# Altium footprint library RFM232_V04.PcbLib: 25 footprints (part 1 of 2)
Each footprint in its own frame and in the unit in brackets; x right, y up, seen from the top. Pads: shape width x height; smd on the part's side, far side on the other; paste and mask are expansions set on the pad; w line width, h text height; cw(c..) or ccw(c..) is an arc to the next point about the centre after c.
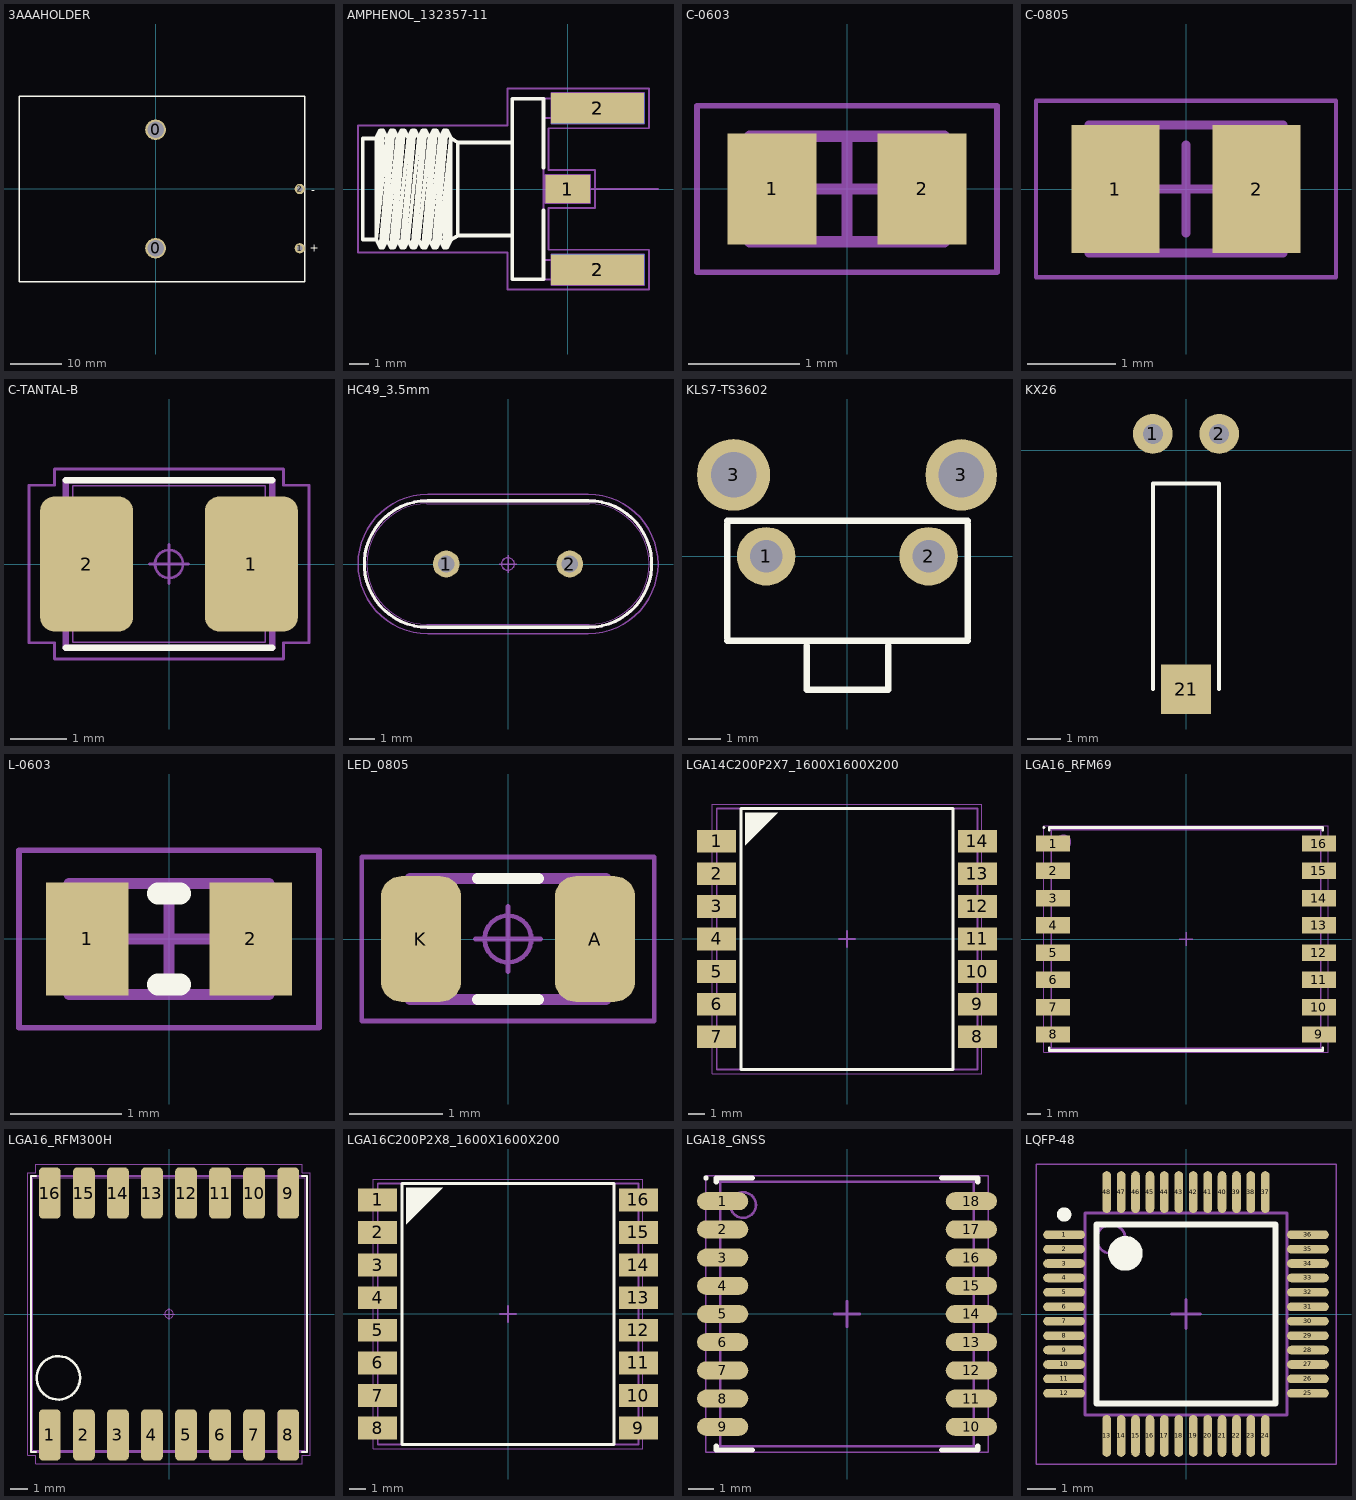
[diagram p0: the footprints below, top view; thin cyan lines are the x and y axes]

## 3AAAHOLDER [mm]
height 2.38
pads (4):
  round 4 hole 3.2: 0(0,-11.5) 0(0,11.5)
  round 2 hole 1: 1(28,-11.5) 2(28,0)
Top Overlay:
  lines w0.254: -26.5,-18 29,-18 29,18 -26.5,18 -26.5,-18
  text "+" at 29.9,-12.2 h1.52
  text "-" at 30.2,-0.9 h1.52
3D body "3x AAA battery holder_update.stp": height 13, standoff 0, extent -26.188,-18 26.795,18

## AMPHENOL_132357-11 [mm] "SMA End Launch Jack for 1.58mm PCB, 50 Ohm, Flat Tab Contact"
height 7.92
pads (5):
  rect 2.35x1.5 smd: 1(0,0)
  rect 4.9x1.6 smd: 2(1.575,-4.25) 2(1.575,4.25)
  rect 4.9x1.6 smd far side: 2(1.575,-4.25) 2(1.575,4.25)
Top Overlay:
  lines w0.2: -10.09,2.665 -10.805,2.665 -10.805,-2.665 -10.09,-2.665 ; -6.17,-2.665 -5.795,-2.453 ; -2.925,-2.453 -5.795,-2.453 ; -2.925,2.447 -5.795,2.447 ; -1.275,-1.137 -1.275,-4.76 -2.925,-4.76 -2.925,4.76 -1.275,4.76 -1.275,1.137 ; -10.09,-2.665 -10.09,2.715 -9.879,3.094 ; -10.09,-2.665 -9.879,-3.094 ; -10.09,-2.665 -9.53,2.715 ; -10.09,-2.665 -9.741,3.094 ; -10.09,-2.665 -9.879,3.094 ; -9.879,-3.094 -9.741,-3.094 ; -9.879,-3.094 -9.319,3.094 ; -9.879,3.094 -9.741,3.094 ; -9.741,-3.094 -9.53,-2.715 ; -9.741,-3.094 -9.181,3.094 ; -9.741,3.094 -9.53,2.715 ; -9.53,-2.715 -9.319,-3.094 ; -9.53,-2.715 -8.97,2.715 ; -9.53,2.715 -9.319,3.094 ; -9.319,-3.094 -9.181,-3.094 ; -9.319,-3.094 -8.759,3.094 ; -9.319,3.094 -9.181,3.094 ; -9.181,-3.094 -8.97,-2.715 ; -9.181,-3.094 -8.621,3.094 ; -9.181,3.094 -8.97,2.715 ; -8.97,-2.715 -8.759,-3.094 ; -8.97,-2.715 -8.41,2.715 ; -8.97,2.715 -8.759,3.094 ; -8.759,-3.094 -8.621,-3.094 ; -8.759,-3.094 -8.199,3.094 ; -8.759,3.094 -8.621,3.094 ; -8.621,-3.094 -8.41,-2.715 ; -8.621,-3.094 -8.061,3.094 ; -8.621,3.094 -8.41,2.715 ; -8.41,-2.715 -8.199,-3.094 ; -8.41,-2.715 -7.85,2.715 ; -8.41,2.715 -8.199,3.094 ; -8.199,-3.094 -8.061,-3.094 ; -8.199,-3.094 -7.639,3.094 ; -8.199,3.094 -8.061,3.094 ; -8.061,-3.094 -7.85,-2.715 ; -8.061,-3.094 -7.501,3.094 ; -8.061,3.094 -7.85,2.715 ; -7.85,-2.715 -7.639,-3.094 ; -7.85,-2.715 -7.29,2.715 ; -7.85,2.715 -7.639,3.094 ; -7.639,-3.094 -7.501,-3.094 ; -7.639,-3.094 -7.079,3.094 ; -7.639,3.094 -7.501,3.094 ; -7.501,-3.094 -7.29,-2.715 ; -7.501,-3.094 -6.941,3.094 ; -7.501,3.094 -7.29,2.715 ; -7.29,-2.715 -7.079,-3.094 ; -7.29,-2.715 -6.73,2.715 ; -7.29,2.715 -7.079,3.094 ; -7.079,-3.094 -6.941,-3.094 ; -7.079,-3.094 -6.519,3.094 ; -7.079,3.094 -6.941,3.094 ; -6.941,-3.094 -6.73,-2.715 ; -6.941,-3.094 -6.381,3.094 ; -6.941,3.094 -6.73,2.715 ; -6.73,-2.715 -6.519,-3.094 ; -6.73,-2.715 -6.17,2.713 ; -6.73,2.715 -6.519,3.094 ; -6.519,-3.094 -6.381,-3.094 ; -6.519,-3.094 -6.17,2.713 ; -6.519,3.094 -6.381,3.094 ; -6.381,-3.094 -6.17,-2.715 -6.17,2.713 ; -6.381,-3.094 -6.17,2.665 -5.795,2.447 ; -6.381,3.094 -6.17,2.713 ; -5.795,-2.453 -5.795,2.447
Mechanical 8:
  lines w0.1: -0.5,0 0,0 ; 0,-0.5 0,0 ; 0,0.5 0,0 ; 0.5,0 0,0 ; 1.075,-4.25 1.575,-4.25 ; 1.075,4.25 1.575,4.25 ; 1.575,-4.75 1.575,-4.25 ; 1.575,-3.75 1.575,-4.25 ; 1.575,3.75 1.575,4.25 ; 1.575,4.75 1.575,4.25 ; 2.075,-4.25 1.575,-4.25 ; 2.075,4.25 1.575,4.25 ; -1.175,-0.75 -1.175,0.75 1.175,0.75 1.175,-0.75 -1.175,-0.75 ; -0.875,-5.05 4.025,-5.05 4.025,-3.45 -0.875,-3.45 -0.875,-5.05 ; -0.875,3.45 4.025,3.45 4.025,5.05 -0.875,5.05 -0.875,3.45
Mechanical 14:
  lines w0.1: -10.09,2.665 -10.805,2.665 -10.805,-2.665 -10.09,-2.665 ; -6.17,-2.665 -5.795,-2.453 ; -2.925,-2.453 -5.795,-2.453 ; -2.925,2.447 -5.795,2.447 ; -1.275,-4.76 -1.275,0 ; -1.275,-3.74 3.475,-3.74 3.475,-4.76 -2.925,-4.76 -2.925,4.76 3.475,4.76 3.475,3.74 -1.275,3.74 ; -1.275,-0.251 0.635,-0.251 0.635,0.251 -1.275,0.251 ; -1.275,4.76 -1.275,0 ; 4.75,0 -1.275,0 ; -10.09,-2.665 -10.09,2.715 -9.879,3.094 ; -10.09,-2.665 -9.879,-3.094 ; -10.09,-2.665 -9.53,2.715 ; -10.09,-2.665 -9.741,3.094 ; -10.09,-2.665 -9.879,3.094 ; -9.879,-3.094 -9.741,-3.094 ; -9.879,-3.094 -9.319,3.094 ; -9.879,3.094 -9.741,3.094 ; -9.741,-3.094 -9.53,-2.715 ; -9.741,-3.094 -9.181,3.094 ; -9.741,3.094 -9.53,2.715 ; -9.53,-2.715 -9.319,-3.094 ; -9.53,-2.715 -8.97,2.715 ; -9.53,2.715 -9.319,3.094 ; -9.319,-3.094 -9.181,-3.094 ; -9.319,-3.094 -8.759,3.094 ; -9.319,3.094 -9.181,3.094 ; -9.181,-3.094 -8.97,-2.715 ; -9.181,-3.094 -8.621,3.094 ; -9.181,3.094 -8.97,2.715 ; -8.97,-2.715 -8.759,-3.094 ; -8.97,-2.715 -8.41,2.715 ; -8.97,2.715 -8.759,3.094 ; -8.759,-3.094 -8.621,-3.094 ; -8.759,-3.094 -8.199,3.094 ; -8.759,3.094 -8.621,3.094 ; -8.621,-3.094 -8.41,-2.715 ; -8.621,-3.094 -8.061,3.094 ; -8.621,3.094 -8.41,2.715 ; -8.41,-2.715 -8.199,-3.094 ; -8.41,-2.715 -7.85,2.715 ; -8.41,2.715 -8.199,3.094 ; -8.199,-3.094 -8.061,-3.094 ; -8.199,-3.094 -7.639,3.094 ; -8.199,3.094 -8.061,3.094 ; -8.061,-3.094 -7.85,-2.715 ; -8.061,-3.094 -7.501,3.094 ; -8.061,3.094 -7.85,2.715 ; -7.85,-2.715 -7.639,-3.094 ; -7.85,-2.715 -7.29,2.715 ; -7.85,2.715 -7.639,3.094 ; -7.639,-3.094 -7.501,-3.094 ; -7.639,-3.094 -7.079,3.094 ; -7.639,3.094 -7.501,3.094 ; -7.501,-3.094 -7.29,-2.715 ; -7.501,-3.094 -6.941,3.094 ; -7.501,3.094 -7.29,2.715 ; -7.29,-2.715 -7.079,-3.094 ; -7.29,-2.715 -6.73,2.715 ; -7.29,2.715 -7.079,3.094 ; -7.079,-3.094 -6.941,-3.094 ; -7.079,-3.094 -6.519,3.094 ; -7.079,3.094 -6.941,3.094 ; -6.941,-3.094 -6.73,-2.715 ; -6.941,-3.094 -6.381,3.094 ; -6.941,3.094 -6.73,2.715 ; -6.73,-2.715 -6.519,-3.094 ; -6.73,-2.715 -6.17,2.713 ; -6.73,2.715 -6.519,3.094 ; -6.519,-3.094 -6.381,-3.094 ; -6.519,-3.094 -6.17,2.713 ; -6.519,3.094 -6.381,3.094 ; -6.381,-3.094 -6.17,-2.715 -6.17,2.713 ; -6.381,-3.094 -6.17,2.665 -5.795,2.447 ; -6.381,3.094 -6.17,2.713 ; -5.795,-2.453 -5.795,2.447
Mechanical 15:
  lines w0.1: -11.055,-3.344 -3.175,-3.344 -3.175,-5.3 4.275,-5.3 4.275,-3.2 -1.025,-3.2 -1.025,-1 1.425,-1 1.425,1 -1.025,1 -1.025,3.2 4.275,3.2 4.275,5.3 -3.175,5.3 -3.175,3.344 -11.055,3.344 -11.055,-3.344
3D body "AMPHENOL_132357-11.stp": height 4.08, standoff -3.84, extent -10.805,-4.76 3.475,4.76

## C-0603 [mm] "Chip Capacitor, 2-Leads, Body 1,60x0,80mm, IPC Medium Density"
height 0.85
pads (2):
  rect 0.8x1 smd: 1(-0.675,0) 2(0.675,0)
Mechanical 13:
  lines w0.1: -0.875,-0.475 -0.875,0.475 0.875,0.475 0.875,-0.475 -0.875,-0.475
Mechanical 15:
  lines w0.05: -1.35,-0.75 -1.35,0.75 1.35,0.75 1.35,-0.75 -1.35,-0.75
  lines w0.1: -0.475,0 0.475,0 ; 0,-0.475 0,0.475
3D body: height 0.85, standoff 0, extent -0.525,-0.475 0.525,0.475
3D body: height 0.85, standoff 0, extent -0.875,-0.475 -0.525,0.475
3D body: height 0.85, standoff 0, extent 0.525,-0.475 0.875,0.475

## C-0805 [mm] "Chip Capacitor, 2-Leads, Body 2,00x1,25mm, IPC Medium Density"
height 1.1
pads (2):
  rect 1x1.45 smd: 1(-0.8,0) 2(0.8,0)
Mechanical 13:
  lines w0.1: -1.1,-0.725 1.1,-0.725 1.1,0.725 -1.1,0.725 -1.1,-0.725
Mechanical 15:
  lines w0.05: -1.7,-1 1.7,-1 1.7,1 -1.7,1 -1.7,-1
  lines w0.1: -0.5,0 0.5,0 ; 0,-0.5 0,0.5
3D body: height 1.1, standoff 0, extent 0.6,-0.725 1.1,0.725
3D body: height 1.1, standoff 0, extent -1.1,-0.725 -0.6,0.725
3D body: height 1.1, standoff 0, extent -0.6,-0.725 0.6,0.725

## C-TANTAL-B [mm] "Capacitor, Polarized, Molded Body; 3.45 mm L X 2.80 mm W X 2.10 mm H body"
height 2.1
pads (2):
  rrect30% 1.66x2.42 smd: 1(1.475,0) 2(-1.475,0)
Top Overlay:
  lines w0.12: -1.85,-1.5 1.85,-1.5 ; -1.85,1.5 1.85,1.5
Mechanical 11:
  lines w0.12: -1.85,-1.5 1.85,-1.5 1.85,1.5 -1.85,1.5 -1.85,-1.5
Mechanical 12:
  lines w0.025: -1.75,-1.1 -1.75,1.1 -0.9,1.1 -0.9,-1.1 -1.75,-1.1 ; -1.725,-1.4 1.725,-1.4 1.725,1.4 -1.725,1.4 -1.725,-1.4 ; 0.9,-1.1 1.75,-1.1 1.75,1.1 0.9,1.1 0.9,-1.1
Mechanical 15:
  circle w0.05: c0,0 r0.25
  lines w0.05: -0.35,0 0.35,0 ; 0,-0.35 0,0.35 ; -2.505,-1.41 -2.05,-1.41 -2.05,-1.7 2.05,-1.7 2.05,-1.41 2.505,-1.41 2.505,1.41 2.05,1.41 2.05,1.7 -2.05,1.7 -2.05,1.41 -2.505,1.41 -2.505,-1.41
3D body "CAPPM350X280X210L85X220.STEP": height 2.1, standoff 0, extent -1.75,-1.4 1.75,1.4

## HC49_3.5mm [mm] "Crystal, HC-49; 4.88 mm C X 0.43 mm W 11.175 mm L X 4.75 mm T X 3.50 mm H body"
height 3.5
pads (2):
  round 1.06 hole 0.66 paste-1.06: 1(-2.44,0) 2(2.44,0)
Top Overlay:
  lines w0.12: -3.18,-2.5 cw(c-3.18,0) -3.18,2.5 3.18,2.5 cw(c3.18,0) 3.18,-2.5 -3.18,-2.5
Mechanical 11:
  lines w0.12: -3.18,-2.5 cw(c-3.18,0) -3.18,2.5 3.18,2.5 cw(c3.18,0) 3.18,-2.5 -3.18,-2.5
Mechanical 12:
  circle w0.025: c-2.44,0 r0.23
  circle w0.025: c2.44,0 r0.23
  lines w0.025: -3.213,-2.375 cw(c-3.213,0) -3.213,2.375 3.213,2.375 cw(c3.213,0) 3.213,-2.375 -3.213,-2.375
Mechanical 15:
  circle w0.05: c0,0 r0.25
  lines w0.05: -0.35,0 0.35,0 ; 0,-0.35 0,0.35 ; -3.18,-2.75 cw(c-3.18,0) -3.18,2.75 3.18,2.75 cw(c3.18,0) 3.18,-2.75 -3.18,-2.75
Mechanical 16:
  text ".Designator" at 0,0 h1.2
3D body "XTAL_HC49P488W43L1117T475H350.STEP": height 3.5, standoff -2, extent -5.588,-2.375 5.587,2.375

## KLS7-TS3602 [mm] "miniature switch"
height 2.38
pads (4):
  round 1.8 hole 1: 1(-2.5,0) 2(2.5,0)
  oval 2.25x2.2 hole 1.4: 3(-3.5,2.5)
  round 2.2 hole 1.4: 3(3.5,2.5)
Top Overlay:
  lines w0.2: -3.7,-2.6 3.7,-2.6 ; -3.7,-2.5 -3.7,1 ; -3.7,1.1 3.7,1.1 ; -1.25,-2.75 -1.25,-4.1 1.25,-4.1 1.25,-2.75 ; 3.7,-2.5 3.7,1
3D body "KLS7-TS3602.STEP": height 4.4, standoff -1.4, extent -3.7,-3.975 3.6,3.75

## KX26 [mm] "clock crystal, 2*6 mm"
height 2.38
pads (3):
  round 1.2 hole 0.6: 1(-1,0.5) 2(1,0.5)
  rect 1.5x1.5 smd: 21(0,-7.2)
Top Overlay:
  lines w0.12: -1,-7.2 -1,-1 1,-1 1,-7.2
3D body: height 0.99, standoff -1, extent -1,-7.2 0.996,-1

## L-0603 [mm] "Chip Inductor, 2-Leads, Body 1,60x0,80mm, IPC Medium Density"
height 1
pads (2):
  rect 0.74x1.02 smd: 1(-0.735,0) 2(0.735,0)
Top Overlay:
  lines w0.2: -0.1,-0.41 0.1,-0.41 ; -0.1,0.41 0.1,0.41
Mechanical 13:
  lines w0.1: -0.9,-0.5 -0.9,0.5 0.9,0.5 0.9,-0.5 -0.9,-0.5
Mechanical 15:
  lines w0.05: -1.35,-0.8 -1.35,0.8 1.35,0.8 1.35,-0.8 -1.35,-0.8
  lines w0.1: -0.5,0 0.5,0 ; 0,-0.5 0,0.5
3D body "INDC1608X10N.step": height 1, standoff 0, extent -0.9,-0.5 0.9,0.5

## LED_0805 [mm] "LED, Chip; 2.00 mm L X 1.25 mm W X 0.80 mm H body"
height 0.8
pads (2):
  rrect51% 0.86x1.35 smd: A(0.935,0) K(-0.935,0)
Top Overlay:
  lines w0.12: -0.325,-0.65 0.325,-0.65 ; -0.325,0.65 0.325,0.65
Mechanical 11:
  lines w0.12: -1.05,-0.65 1.05,-0.65 1.05,0.65 -1.05,0.65 -1.05,-0.65
Mechanical 12:
  lines w0.025: -1,-0.625 1,-0.625 ; -1,-0.625 -1,0.625 ; -1,-0.625 -1,0.625 ; -1,-0.625 -0.6,-0.625 -0.6,0.625 -1,0.625 ; -1,0.625 1,0.625 ; 1,-0.625 1,0.625 ; 1,-0.625 0.6,-0.625 0.6,0.625 1,0.625 ; 1,-0.625 1,0.625
Mechanical 15:
  circle w0.05: c0,0 r0.25
  lines w0.05: -0.35,0 0.35,0 ; 0,-0.35 0,0.35 ; -1.57,-0.88 1.57,-0.88 1.57,0.88 -1.57,0.88 -1.57,-0.88
3D body: height 0.25, standoff 0, extent -1,-0.625 1,0.625

## LGA14C200P2X7_1600X1600X200 [mm] "LGA, 14-Leads, Body 16,00x16,00mmx2,00mm, Pitch 2,00mm"
height 2
pads (14):
  rect 2.4x1.4 smd: 1(-8,6) 2(-8,4) 3(-8,2) 4(-8,0) 5(-8,-2) 6(-8,-4) 7(-8,-6) 8(8,-6) 9(8,-4) 10(8,-2) 11(8,0) 12(8,2) 13(8,4) 14(8,6)
Top Overlay:
  region: -4.25,7.75 -6.25,5.75 -6.25,7.75
  lines w0.2: -6.5,-8 -6.5,8 6.5,8 6.5,-8 -6.5,-8
Mechanical 13:
  lines w0.1: -8,-8 -8,8 8,8 8,-8 -8,-8
Mechanical 15:
  lines w0.05: -8.25,-8.25 -8.25,8.25 8.25,8.25 8.25,-8.25 -8.25,-8.25
  lines w0.1: -0.5,0 0.5,0 ; 0,-0.5 0,0.5
3D body: height 2, standoff 0.1, extent -8,-8 8,8

## LGA16_RFM69 [mm] "LGA, 16-Leads, RFM69HW"
height 2
pads (16):
  rect 2.5x1.2 smd: 1(-9.75,7) 2(-9.75,5) 3(-9.75,3) 4(-9.75,1) 5(-9.75,-1) 6(-9.75,-3) 7(-9.75,-5) 8(-9.75,-7) 9(9.75,-7) 10(9.75,-5) 11(9.75,-3) 12(9.75,-1) 13(9.75,1) 14(9.75,3) 15(9.75,5) 16(9.75,7)
Top Overlay:
  circle w0.1: c-10.425,8.175 r0.05
  lines w0.2: -10.025,-8 -10.025,-8.175 10.025,-8.175 10.025,-8 ; -10.025,8 -10.025,8.175 10.025,8.175 10.025,8
Mechanical 13:
  circle w0.1: c-8.975,7.125 r0.5
  lines w0.1: -9.875,-8.025 9.875,-8.025 9.875,8.025 -9.875,8.025 -9.875,-8.025
Mechanical 15:
  lines w0.05: -10.435,-8.3 10.435,-8.3 10.435,8.3 -10.435,8.3 -10.435,-8.3
  lines w0.1: -0.5,0 0.5,0 ; 0,-0.5 0,0.5
3D body "LGA16_RFM69.step": height 2, standoff 0.1, extent -9.875,-8.025 9.875,8.025

## LGA16_RFM300H [mm] "Chip Array, 2 Side Concave, 2.00 mm pitch; 16 pin, 16.00 mm L X 16.00 mm W X 2.00 mm H body"
height 2
pads (16):
  rrect39% 1.28x3.01 smd: 1(-7,-7.105) 2(-5,-7.105) 3(-3,-7.105) 4(-1,-7.105) 5(1,-7.105) 6(3,-7.105) 7(5,-7.105) 8(7,-7.105) 9(7,7.105) 10(5,7.105) 11(3,7.105) 12(1,7.105) 13(-1,7.105) 14(-3,7.105) 15(-5,7.105) 16(-7,7.105)
Top Overlay:
  circle w0.15: c-6.5,-3.75 r1.275
  lines w0.12: -7.82,-8.1 -8.1,-8.1 -8.1,8.1 -7.82,8.1 ; 7.82,-8.1 8.1,-8.1 8.1,8.1 7.82,8.1
Mechanical 11:
  lines w0.12: -8.1,-8.1 -8.1,8.1 8.1,8.1 8.1,-8.1 -8.1,-8.1
Mechanical 12:
  lines w0.025: -8,-8 -8,8 8,8 8,-8 -8,-8 ; -7.575,-8 -6.425,-8 -6.425,-5.8 -7.575,-5.8 -7.575,-8 ; -7.575,5.8 -6.425,5.8 -6.425,8 -7.575,8 -7.575,5.8 ; -5.575,-8 -4.425,-8 -4.425,-5.8 -5.575,-5.8 -5.575,-8 ; -5.575,5.8 -4.425,5.8 -4.425,8 -5.575,8 -5.575,5.8 ; -3.575,-8 -2.425,-8 -2.425,-5.8 -3.575,-5.8 -3.575,-8 ; -3.575,5.8 -2.425,5.8 -2.425,8 -3.575,8 -3.575,5.8 ; -1.575,-8 -0.425,-8 -0.425,-5.8 -1.575,-5.8 -1.575,-8 ; -1.575,5.8 -0.425,5.8 -0.425,8 -1.575,8 -1.575,5.8 ; 0.425,-8 1.575,-8 1.575,-5.8 0.425,-5.8 0.425,-8 ; 0.425,5.8 1.575,5.8 1.575,8 0.425,8 0.425,5.8 ; 2.425,-8 3.575,-8 3.575,-5.8 2.425,-5.8 2.425,-8 ; 2.425,5.8 3.575,5.8 3.575,8 2.425,8 2.425,5.8 ; 4.425,-8 5.575,-8 5.575,-5.8 4.425,-5.8 4.425,-8 ; 4.425,5.8 5.575,5.8 5.575,8 4.425,8 4.425,5.8 ; 6.425,-8 7.575,-8 7.575,-5.8 6.425,-5.8 6.425,-8 ; 6.425,5.8 7.575,5.8 7.575,8 6.425,8 6.425,5.8
Mechanical 15:
  circle w0.05: c0,0 r0.25
  lines w0.05: -0.35,0 0.35,0 ; 0,-0.35 0,0.35 ; -8.3,-8.3 -8.3,8.3 -7.84,8.3 -7.84,8.81 7.84,8.81 7.84,8.3 8.3,8.3 8.3,-8.3 7.84,-8.3 7.84,-8.81 -7.84,-8.81 -7.84,-8.3 -8.3,-8.3
Mechanical 16:
  text ".Designator" at 0,0 h1.2
3D body "LGA16_RFM300H.STEP": height 2, standoff 0, extent -8,-8.05 8,8.05

## LGA16C200P2X8_1600X1600X200 [mm] "LGA, 16-Leads, Body 16,00x16,00mmx2,00mm, Pitch 2,00mm"
height 2
pads (16):
  rect 2.4x1.4 smd: 1(-8,7) 2(-8,5) 3(-8,3) 4(-8,1) 5(-8,-1) 6(-8,-3) 7(-8,-5) 8(-8,-7) 9(8,-7) 10(8,-5) 11(8,-3) 12(8,-1) 13(8,1) 14(8,3) 15(8,5) 16(8,7)
Top Overlay:
  region: -4,7.75 -6.25,5.5 -6.25,7.75
  lines w0.2: -6.5,-8 6.5,-8 6.5,8 -6.5,8 -6.5,-8
Mechanical 13:
  lines w0.1: -8,-8 8,-8 8,8 -8,8 -8,-8
Mechanical 15:
  lines w0.05: -8.25,-8.25 8.25,-8.25 8.25,8.25 -8.25,8.25 -8.25,-8.25
  lines w0.1: -0.5,0 0.5,0 ; 0,-0.5 0,0.5
3D body: height 2, standoff 0.1, extent -8,-8 8,8

## LGA18_GNSS [mm] "8-Leads, Body 10,10x9,70mm, Pitch 1,10mm"
height 2.6
pads (18):
  oval 2x0.7 smd mask+0.1: 1(-4.85,4.4) 2(-4.85,3.3) 3(-4.85,2.2) 4(-4.85,1.1) 5(-4.85,0) 6(-4.85,-1.1) 7(-4.85,-2.2) 8(-4.85,-3.3) 9(-4.85,-4.4) 10(4.85,-4.4) 11(4.85,-3.3) 12(4.85,-2.2) 13(4.85,-1.1) 14(4.85,0) 15(4.85,1.1) 16(4.85,2.2) 17(4.85,3.3) 18(4.85,4.4)
Top Overlay:
  circle w0.1: c-5.5,5.3 r0.05
  lines w0.2: -5.1,-5.15 -5.1,-5.3 -3.695,-5.3 ; -5.1,5.15 -5.1,5.3 -3.695,5.3 ; 3.695,-5.3 5.1,-5.3 5.1,-5.15 ; 3.695,5.3 5.1,5.3 5.1,5.15
Mechanical 13:
  circle w0.1: c-4.05,4.25 r0.5
  lines w0.1: -4.95,-5.15 4.95,-5.15 4.95,5.15 -4.95,5.15 -4.95,-5.15
Mechanical 15:
  lines w0.05: -5.505,-5.4 5.505,-5.4 5.505,5.4 -5.505,5.4 -5.505,-5.4
  lines w0.1: -0.5,0 0.5,0 ; 0,-0.5 0,0.5
3D body: height 2.6, standoff 0, extent -4.95,-5.15 4.95,5.15

## LQFP-48 [mm] "TSQFP, 48-Leads, Body 7,00x7,00mm, Pitch 0,50mm, IPC Medium Density"
height 1.6
pads (48):
  oval 1.45x0.3 smd: 1(-4.225,2.75) 2(-4.225,2.25) 3(-4.225,1.75) 4(-4.225,1.25) 5(-4.225,0.75) 6(-4.225,0.25) 7(-4.225,-0.25) 8(-4.225,-0.75) 9(-4.225,-1.25) 10(-4.225,-1.75) 11(-4.225,-2.25) 12(-4.225,-2.75) 25(4.225,-2.75) 26(4.225,-2.25) 27(4.225,-1.75) 28(4.225,-1.25) 29(4.225,-0.75) 30(4.225,-0.25) 31(4.225,0.25) 32(4.225,0.75) 33(4.225,1.25) 34(4.225,1.75) 35(4.225,2.25) 36(4.225,2.75)
  oval 0.3x1.45 smd: 13(-2.75,-4.225) 14(-2.25,-4.225) 15(-1.75,-4.225) 16(-1.25,-4.225) 17(-0.75,-4.225) 18(-0.25,-4.225) 19(0.25,-4.225) 20(0.75,-4.225) 21(1.25,-4.225) 22(1.75,-4.225) 23(2.25,-4.225) 24(2.75,-4.225) 37(2.75,4.225) 38(2.25,4.225) 39(1.75,4.225) 40(1.25,4.225) 41(0.75,4.225) 42(0.25,4.225) 43(-0.25,4.225) 44(-0.75,4.225) 45(-1.25,4.225) 46(-1.75,4.225) 47(-2.25,4.225) 48(-2.75,4.225)
Top Overlay:
  circle w0.25: c-4.225,3.45 r0.125
  circle w0.6: c-2.1,2.1 r0.3
  lines w0.2: -3.1,-3.1 -3.1,3.1 3.1,3.1 3.1,-3.1 -3.1,-3.1
Mechanical 13:
  circle w0.1: c-2.6,2.6 r0.5
  lines w0.1: -3.5,-3.5 -3.5,3.5 3.5,3.5 3.5,-3.5 -3.5,-3.5
Mechanical 15:
  lines w0.05: -5.2,-5.2 -5.2,5.2 5.2,5.2 5.2,-5.2 -5.2,-5.2
  lines w0.1: -0.5,0 0.5,0 ; 0,-0.5 0,0.5
3D body: height 1.6, standoff 0.05, extent -3.5,-3.5 3.5,3.5